# Altium schematic symbol library Inductor.SchLib: 2 symbols
Pins are listed as number, name and electrical type; pins without a type are passive.

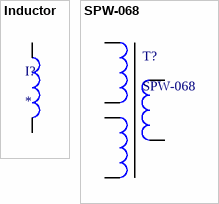
[diagram p0: symbols Inductor to SPW-068]

## Inductor
designator I?
footprint INDUCTOR
footprint DO3316P
pins: 1, 2

## SPW-068
designator T?
footprint SPW-068
pins: 1, 2, 3, 4, 5, 6